# Altium footprint library Micron Technology Footprints.PcbLib: 5 footprints
Each footprint in its own frame and in the unit in brackets; x right, y up, seen from the top. Pads: shape width x height; smd on the part's side, far side on the other; paste and mask are expansions set on the pad; w line width, h text height; cw(c..) or ccw(c..) is an arc to the next point about the centre after c.
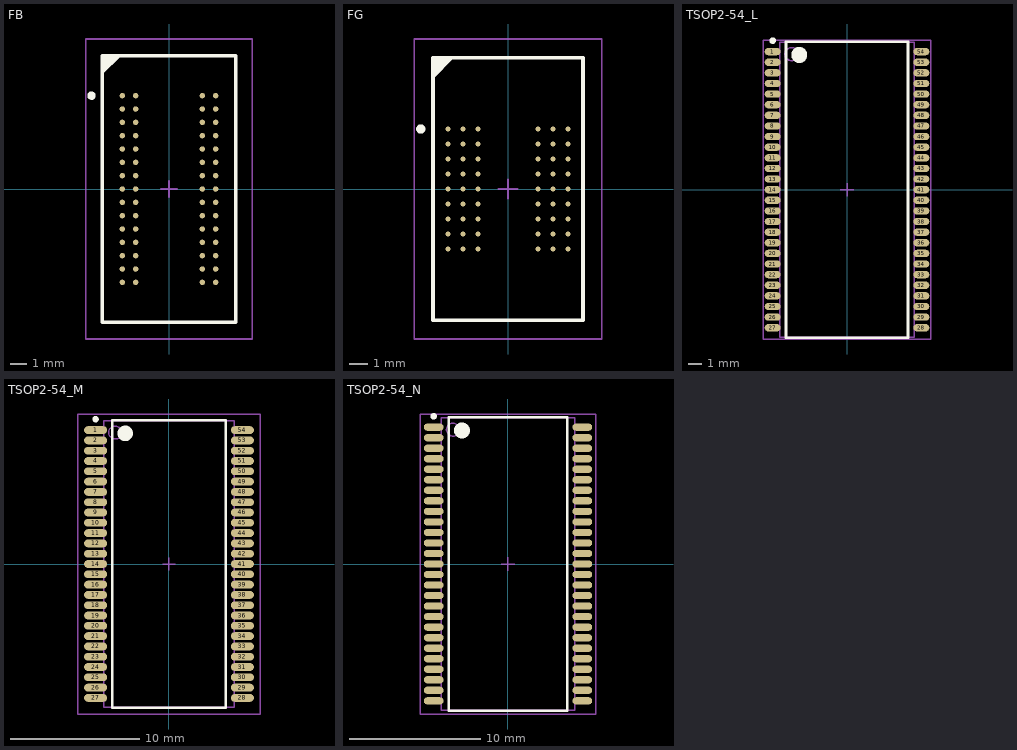
[diagram p0: the footprints below, top view; thin cyan lines are the x and y axes]

## FB [mm] "60-Ball Ball Grid Array Rectangular 0.8 mm Pitch (FB)"
height 1.2
pads (60):
  round 0.33 smd: A1(-2.8,5.6) A2(-2,5.6) A7(2,5.6) A8(2.8,5.6) B1(-2.8,4.8) B2(-2,4.8) B7(2,4.8) B8(2.8,4.8) C1(-2.8,4) C2(-2,4) C7(2,4) C8(2.8,4) D1(-2.8,3.2) D2(-2,3.2) D7(2,3.2) D8(2.8,3.2) E1(-2.8,2.4) E2(-2,2.4) E7(2,2.4) E8(2.8,2.4) F1(-2.8,1.6) F2(-2,1.6) F7(2,1.6) F8(2.8,1.6) G1(-2.8,0.8) G2(-2,0.8) G7(2,0.8) G8(2.8,0.8) H1(-2.8,0) H2(-2,0) H7(2,0) H8(2.8,0) J1(-2.8,-0.8) J2(-2,-0.8) J7(2,-0.8) J8(2.8,-0.8) K1(-2.8,-1.6) K2(-2,-1.6) K7(2,-1.6) K8(2.8,-1.6) L1(-2.8,-2.4) L2(-2,-2.4) L7(2,-2.4) L8(2.8,-2.4) M1(-2.8,-3.2) M2(-2,-3.2) M7(2,-3.2) M8(2.8,-3.2) N1(-2.8,-4) N2(-2,-4) N7(2,-4) N8(2.8,-4) P1(-2.8,-4.8) P2(-2,-4.8) P7(2,-4.8) P8(2.8,-4.8) R1(-2.8,-5.6) R2(-2,-5.6) R7(2,-5.6) R8(2.8,-5.6)
Top Overlay:
  circle w0.25: c-4.65,5.6 r0.125
  region: -3,8 -4,7 -4,8
  lines w0.2: -4,7 -3,8 ; -4,-8 4,-8 4,8 -4,8 -4,-8
Mechanical 13:
  lines w0.1: -4,-8 4,-8 4,8 -4,8 -4,-8
Mechanical 15:
  lines w0.1: -0.5,0 0.5,0 ; 0,-0.5 0,0.5 ; -5,-9 5,-9 5,9 -5,9 -5,-9
3D body: height 1.2, standoff 0, extent -4,-8 4,8

## FG [mm] "54-Ball Ball Grid Array Rectangular 0.8 mm Pitch (FG)"
height 0.88
pads (54):
  round 0.27 smd: A1(-3.2,3.2) A2(-2.4,3.2) A3(-1.6,3.2) A7(1.6,3.2) A8(2.4,3.2) A9(3.2,3.2) B1(-3.2,2.4) B2(-2.4,2.4) B3(-1.6,2.4) B7(1.6,2.4) B8(2.4,2.4) B9(3.2,2.4) C1(-3.2,1.6) C2(-2.4,1.6) C3(-1.6,1.6) C7(1.6,1.6) C8(2.4,1.6) C9(3.2,1.6) D1(-3.2,0.8) D2(-2.4,0.8) D3(-1.6,0.8) D7(1.6,0.8) D8(2.4,0.8) D9(3.2,0.8) E1(-3.2,0) E2(-2.4,0) E3(-1.6,0) E7(1.6,0) E8(2.4,0) E9(3.2,0) F1(-3.2,-0.8) F2(-2.4,-0.8) F3(-1.6,-0.8) F7(1.6,-0.8) F8(2.4,-0.8) F9(3.2,-0.8) G1(-3.2,-1.6) G2(-2.4,-1.6) G3(-1.6,-1.6) G7(1.6,-1.6) G8(2.4,-1.6) G9(3.2,-1.6) H1(-3.2,-2.4) H2(-2.4,-2.4) H3(-1.6,-2.4) H7(1.6,-2.4) H8(2.4,-2.4) H9(3.2,-2.4) J1(-3.2,-3.2) J2(-2.4,-3.2) J3(-1.6,-3.2) J7(1.6,-3.2) J8(2.4,-3.2) J9(3.2,-3.2)
Top Overlay:
  circle w0.25: c-4.65,3.2 r0.125
  region: -3,7 -4,6 -4,7
  lines w0.2: -4,6 -3,7 ; -4,-7 4,-7 4,7 -4,7 -4,-7
Mechanical 13:
  lines w0.1: -4,-7 4,-7 4,7 -4,7 -4,-7
Mechanical 15:
  lines w0.1: -0.5,0 0.5,0 ; 0,-0.5 0,0.5 ; -5,-8 5,-8 5,8 -5,8 -5,-8
3D body: height 0.88, standoff 0, extent -4,-7 4,7

## TSOP2-54_L [mm] "54-Pin Plastic Small Outline Package 0.8 mm Pitch, IPC High Density"
height 1.2
pads (54):
  oval 1.2x0.55 smd: 1(-5.6,10.4) 2(-5.6,9.6) 3(-5.6,8.8) 4(-5.6,8) 5(-5.6,7.2) 6(-5.6,6.4) 7(-5.6,5.6) 8(-5.6,4.8) 9(-5.6,4) 10(-5.6,3.2) 11(-5.6,2.4) 12(-5.6,1.6) 13(-5.6,0.8) 14(-5.6,0) 15(-5.6,-0.8) 16(-5.6,-1.6) 17(-5.6,-2.4) 18(-5.6,-3.2) 19(-5.6,-4) 20(-5.6,-4.8) 21(-5.6,-5.6) 22(-5.6,-6.4) 23(-5.6,-7.2) 24(-5.6,-8) 25(-5.6,-8.8) 26(-5.6,-9.6) 27(-5.6,-10.4) 28(5.6,-10.4) 29(5.6,-9.6) 30(5.6,-8.8) 31(5.6,-8) 32(5.6,-7.2) 33(5.6,-6.4) 34(5.6,-5.6) 35(5.6,-4.8) 36(5.6,-4) 37(5.6,-3.2) 38(5.6,-2.4) 39(5.6,-1.6) 40(5.6,-0.8) 41(5.6,0) 42(5.6,0.8) 43(5.6,1.6) 44(5.6,2.4) 45(5.6,3.2) 46(5.6,4) 47(5.6,4.8) 48(5.6,5.6) 49(5.6,6.4) 50(5.6,7.2) 51(5.6,8) 52(5.6,8.8) 53(5.6,9.6) 54(5.6,10.4)
Top Overlay:
  circle w0.25: c-5.6,11.225 r0.125
  circle w0.6: c-3.6,10.15 r0.3
  lines w0.2: -4.6,-11.15 -4.6,11.15 4.6,11.15 4.6,-11.15 -4.6,-11.15
Mechanical 13:
  circle w0.1: c-4.18,10.21 r0.5
  lines w0.1: -5.08,-11.11 -5.08,11.11 5.08,11.11 5.08,-11.11 -5.08,-11.11
Mechanical 15:
  lines w0.1: -0.5,0 0.5,0 ; 0,-0.5 0,0.5 ; -6.3,-11.25 -6.3,11.25 6.3,11.25 6.3,-11.25 -6.3,-11.25
3D body: height 1.2, standoff 0, extent -5.08,-11.11 5.08,11.11

## TSOP2-54_M [mm] "54-Pin Plastic Small Outline Package 0.8 mm Pitch, IPC Low Density"
height 1.2
pads (54):
  oval 1.8x0.6 smd: 1(-5.7,10.4) 2(-5.7,9.6) 3(-5.7,8.8) 4(-5.7,8) 5(-5.7,7.2) 6(-5.7,6.4) 7(-5.7,5.6) 8(-5.7,4.8) 9(-5.7,4) 10(-5.7,3.2) 11(-5.7,2.4) 12(-5.7,1.6) 13(-5.7,0.8) 14(-5.7,0) 15(-5.7,-0.8) 16(-5.7,-1.6) 17(-5.7,-2.4) 18(-5.7,-3.2) 19(-5.7,-4) 20(-5.7,-4.8) 21(-5.7,-5.6) 22(-5.7,-6.4) 23(-5.7,-7.2) 24(-5.7,-8) 25(-5.7,-8.8) 26(-5.7,-9.6) 27(-5.7,-10.4) 28(5.7,-10.4) 29(5.7,-9.6) 30(5.7,-8.8) 31(5.7,-8) 32(5.7,-7.2) 33(5.7,-6.4) 34(5.7,-5.6) 35(5.7,-4.8) 36(5.7,-4) 37(5.7,-3.2) 38(5.7,-2.4) 39(5.7,-1.6) 40(5.7,-0.8) 41(5.7,0) 42(5.7,0.8) 43(5.7,1.6) 44(5.7,2.4) 45(5.7,3.2) 46(5.7,4) 47(5.7,4.8) 48(5.7,5.6) 49(5.7,6.4) 50(5.7,7.2) 51(5.7,8) 52(5.7,8.8) 53(5.7,9.6) 54(5.7,10.4)
Top Overlay:
  circle w0.6: c-3.4,10.15 r0.3
  circle w0.25: c-5.7,11.25 r0.125
  lines w0.2: -4.4,-11.15 4.4,-11.15 4.4,11.15 -4.4,11.15 -4.4,-11.15
Mechanical 13:
  circle w0.1: c-4.18,10.21 r0.5
  lines w0.1: -5.08,-11.11 5.08,-11.11 5.08,11.11 -5.08,11.11 -5.08,-11.11
Mechanical 15:
  lines w0.1: -0.5,0 0.5,0 ; 0,-0.5 0,0.5 ; -7.1,-11.65 7.1,-11.65 7.1,11.65 -7.1,11.65 -7.1,-11.65
3D body: height 1.2, standoff 0, extent -5.08,-11.11 5.08,11.11

## TSOP2-54_N [mm] "54-Pin Plastic Small Outline Package 0.8 mm Pitch, IPC Medium Density"
height 1.2
pads (54):
  oval 1.5x0.55 smd: 1(-5.65,10.4) 2(-5.65,9.6) 3(-5.65,8.8) 4(-5.65,8) 5(-5.65,7.2) 6(-5.65,6.4) 7(-5.65,5.6) 8(-5.65,4.8) 9(-5.65,4) 10(-5.65,3.2) 11(-5.65,2.4) 12(-5.65,1.6) 13(-5.65,0.8) 14(-5.65,0) 15(-5.65,-0.8) 16(-5.65,-1.6) 17(-5.65,-2.4) 18(-5.65,-3.2) 19(-5.65,-4) 20(-5.65,-4.8) 21(-5.65,-5.6) 22(-5.65,-6.4) 23(-5.65,-7.2) 24(-5.65,-8) 25(-5.65,-8.8) 26(-5.65,-9.6) 27(-5.65,-10.4) 28(5.65,-10.4) 29(5.65,-9.6) 30(5.65,-8.8) 31(5.65,-8) 32(5.65,-7.2) 33(5.65,-6.4) 34(5.65,-5.6) 35(5.65,-4.8) 36(5.65,-4) 37(5.65,-3.2) 38(5.65,-2.4) 39(5.65,-1.6) 40(5.65,-0.8) 41(5.65,0) 42(5.65,0.8) 43(5.65,1.6) 44(5.65,2.4) 45(5.65,3.2) 46(5.65,4) 47(5.65,4.8) 48(5.65,5.6) 49(5.65,6.4) 50(5.65,7.2) 51(5.65,8) 52(5.65,8.8) 53(5.65,9.6) 54(5.65,10.4)
Top Overlay:
  circle w0.25: c-5.65,11.225 r0.125
  circle w0.6: c-3.5,10.15 r0.3
  lines w0.2: -4.5,-11.15 -4.5,11.15 4.5,11.15 4.5,-11.15 -4.5,-11.15
Mechanical 13:
  circle w0.1: c-4.18,10.21 r0.5
  lines w0.1: -5.08,-11.11 -5.08,11.11 5.08,11.11 5.08,-11.11 -5.08,-11.11
Mechanical 15:
  lines w0.1: -0.5,0 0.5,0 ; 0,-0.5 0,0.5 ; -6.65,-11.4 -6.65,11.4 6.65,11.4 6.65,-11.4 -6.65,-11.4
3D body: height 1.2, standoff 0, extent -5.08,-11.11 5.08,11.11